# EAGLE library part BQ25504_RGT_16 (library Bat-Components)
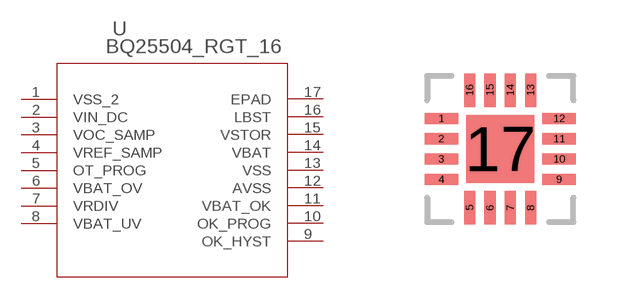
[diagram p6: symbol with the pads of RGT16_1P7X1P7; footprint RGT16_1P7X1P7]

Designator prefix U

## BQ25504_RGT_16 (DATASHEETURL: http://www.ti.com/lit/gpn/BQ25504; DESCRIPTION: Ultra Low Power Boost Converter with Battery Management for Energy Harvester App; FAMILY_NAME: BATTERY CHARGE MANAGEMENT; GENERIC_PART_NUMBER: BQ25504; INDUSTRY_STD_PKG_TYPE: QFN; MANUFACTURER: Texas Instruments; PACKAGE_DESIGNATOR: RGT; PIN_COUNT: 16)  [RGT16_1P7X1P7]
1  VSS_2  pwr
2  VIN_DC  in
3  VOC_SAMP  in
4  VREF_SAMP  in
5  OT_PROG  in
6  VBAT_OV  in
7  VRDIV  out
8  VBAT_UV  in
9  OK_HYST  in
10  OK_PROG  in
11  VBAT_OK  out
12  AVSS  pwr
13  VSS  pwr
14  VBAT
15  VSTOR  out
16  LBST  in
17  EPAD  pwr

## Footprint RGT16_1P7X1P7 (pad centres in mm)
smd 0.838 x 0.279: 1 -1.473,0.762; 2 -1.473,0.254; 3 -1.473,-0.254; 4 -1.473,-0.762; 9 1.473,-0.762; 10 1.473,-0.254; 11 1.473,0.254; 12 1.473,0.762
smd 0.279 x 0.838: 5 -0.762,-1.473; 6 -0.254,-1.473; 7 0.254,-1.473; 8 0.762,-1.473; 13 0.762,1.473; 14 0.254,1.473; 15 -0.254,1.473; 16 -0.762,1.473
smd 1.702 x 1.702: 17 0,0